# Altium schematic symbol library Converters and Regulators.SchLib: 10 symbols
Pins are listed as number, name and electrical type; pins without a type are passive.

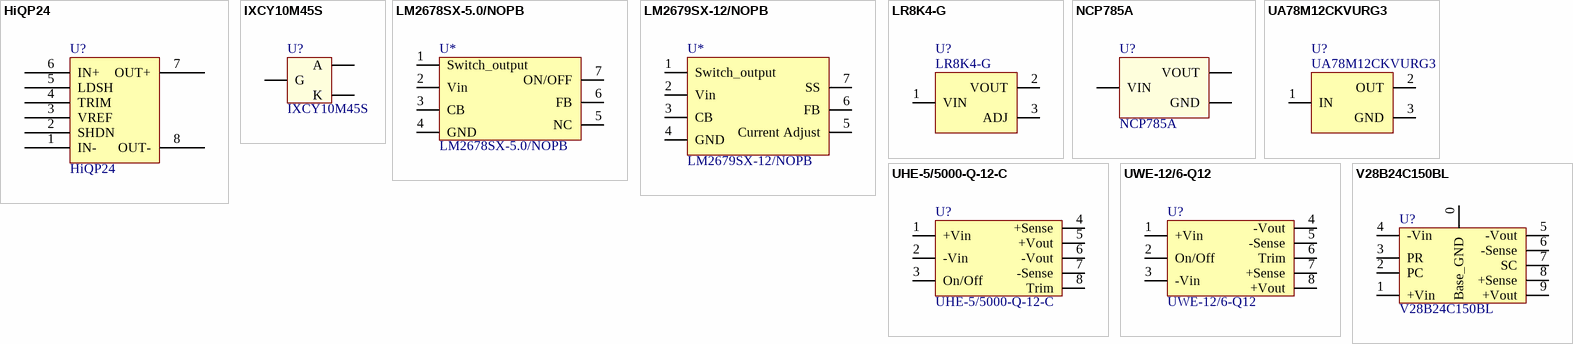
[diagram p0: symbols HiQP24 to V28B24C150BL]

## HiQP24
designator U?
HiQP Series DCDC 24V output; ComponentLink1Description: Datasheet; ComponentLink1URL: https://www.picoelectronics.com/node/13301
footprint HiQP24
pins: 1 IN-, 2 SHDN, 3 VREF, 4 TRIM, 5 LDSH, 6 IN+, 7 OUT+, 8 OUT-

## IXCY10M45S
designator U?
Current & Power Monitors & Regulators 0.01 Amps 450V; ComponentLink1Description: Datasheet; ComponentLink1URL: https://www.mouser.com/datasheet/2/240/98704-1546069.pdf
footprint TO-252 (DPAK, 3-Leads, Body 6.7x6.22mm, Pitch 2.29mm, IPC Low Density)
pins: 1 G (power), 3 K (power), 4 A (power)

## LM2678SX-5.0/NOPB
designator U*
5V Switching Regulator, 5A
footprint LM2678SX-5.0/NOPB (5V Switching Regulator, 5A)
pins: 1 Switch_output, 2 Vin, 3 CB, 4 GND, 5 NC, 6 FB, 7 ON/OFF

## LM2679SX-12/NOPB
designator U*
12V Switching Regulator, 5A
footprint LM2679SX-12/NOPB (12V Switching Regulator, 5A)
pins: 1 Switch_output, 2 Vin, 3 CB, 4 GND, 5 Current Adjust, 6 FB, 7 SS

## LR8K4-G
designator U?
High Voltage Linear Regulator; ComponentLink1Description: Datasheet; ComponentLink1URL: https://www.mouser.com/datasheet/2/268/20005399A-909415.pdf
footprint LR8K4-G (High Voltage Linear Regulator)
pins: 1 VIN, 2 VOUT, 3 ADJ

## NCP785A
designator U?
Wide Input Voltage Range / 10mA Ultra-Low Iq, High / PSRR Linear Regulator; ComponentLink1Description: Datasheet; ComponentLink1URL: https://www.mouser.com/datasheet/2/308/NCP785A-D-532012.pdf
footprint SOT-89-MB3_M (SOT89, 3-Leads, Body 4.5x2.4 mm, Pitch 1.5mm, Lead Span 4.1mm, IPC Low Density)
pins: 1 VIN (power), 2 GND (power), 3 VOUT (power)

## UA78M12CKVURG3
designator U?
12V Regulator
footprint UA78M12CKVURG3 (12V Regulator)
pins: 1 IN, 2 OUT, 3 GND

## UHE-5/5000-Q-12-C
designator U?
5V DCDC
footprint UHE-5/5000-Q-12-C (5V DCDC)
pins: 1 +Vin, 2 -Vin, 3 On/Off, 4 +Sense, 5 +Vout, 6 -Vout, 7 -Sense, 8 Trim

## UWE-12/6-Q12
designator U?
12V DCDC
footprint UWE-12/6-Q12 (12V DCDC)
pins: 1 +Vin, 2 On/Off, 3 -Vin, 4 -Vout, 5 -Sense, 6 Trim, 7 +Sense, 8 +Vout

## V28B24C150BL
designator U?
24V DCDC
footprint V28B24C150BL (24V DCDC)
pins: 0 Base_GND, 1 +Vin, 2 PC, 3 PR, 4 -Vin, 5 -Vout, 6 -Sense, 7 SC, 8 +Sense, 9 +Vout